# EAGLE library part BSZ060NE2LSATMA1 (library BSZ060NE2LSATMA1)
N-Channel MOSFET, 40 A, 25 V, 8-Pin TSDSON Infineon BSZ060NE2LSATMA1 Source: Datasheet <https://www.infineon.com/dgdl/BSZ060NE2LS_Rev 2.1.pdf?folderId=db3a304313b8b5a60113cee8763b02d7&fileId=db3a30432ea425a4012ec927cb360e1f>
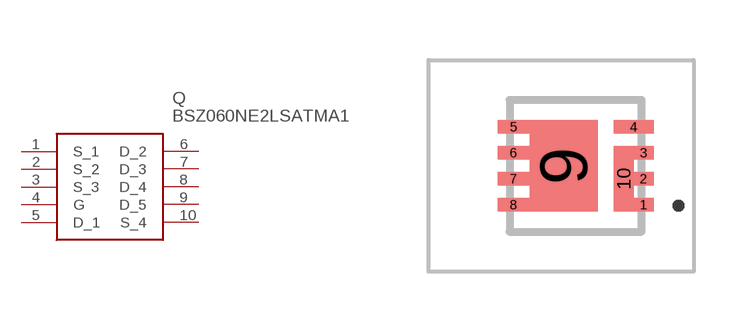
[diagram p0: symbol with the pads of BSZ060NE2LSATMA1; footprint BSZ060NE2LSATMA1]

Designator prefix Q

## BSZ060NE2LSATMA1 (Description: N-Channel MOSFET, 40 A, 25 V, 8-Pin TSDSON Infineon BSZ060NE2LSATMA1; Height: 1.1mm; Manufacturer_Name: Infineon; Manufacturer_Part_Number: BSZ060NE2LSATMA1; Mouser_Part_Number: 726-BSZ060NE2LSATMA1; Mouser_Price-Stock: https://www.mouser.co.uk/ProductDetail/Infineon-Technologies/BSZ060NE2LSATMA1?qs=OwbwYO03UsIogM4kg2VcJw%3D%3D)  [BSZ060NE2LSATMA1]
1  S_1
2  S_2
3  S_3
4  G
5  D_1
6  D_2
7  D_3
8  D_4
9  D_5
10  S_4

## Footprint BSZ060NE2LSATMA1 (pad centres in mm)
BSZ060NE2LSATMA1-2
smd 0.5 x 0.34: 1 1.675,-0.975; 2 1.675,-0.325; 3 1.675,0.325
smd 1 x 0.34: 4 1.425,0.975
smd 0.8 x 0.34: 5 -1.575,0.975; 6 -1.575,0.325; 7 -1.575,-0.325; 8 -1.575,-0.975
smd 1.71 x 2.29: 9 -0.32,0
smd 0.5 x 1.64: 10 1.175,-0.325